# EAGLE library part SN75175 (library lichtenstein_onion)
QUADRUPLE DIFFERENTIAL LINE RECEIVERS Datasheet <http://www.ti.com/lit/ds/symlink/sn75175.pdf>
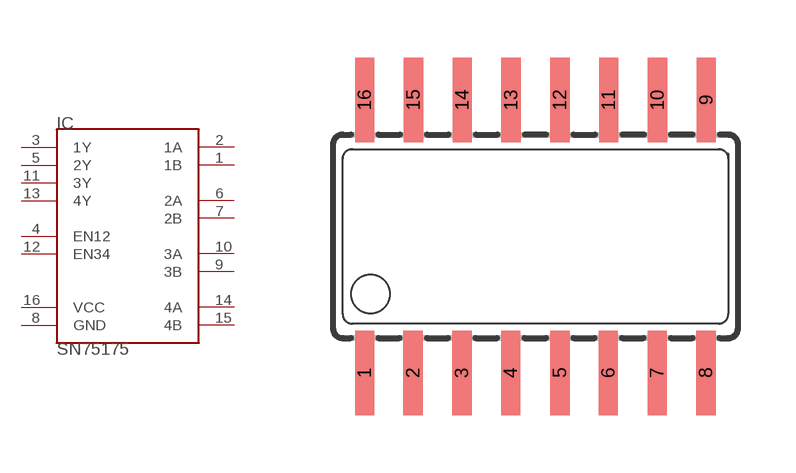
[diagram p21: symbol with the pads of SOP-16; footprint SOP-16]

Designator prefix IC

## SN75175SOP-16 (MOUSER: 595-SN75175DR)  [SOP-16]
1  1B
2  1A
3  1Y  out
4  EN12  in
5  2Y  out
6  2A
7  2B
8  GND  pwr
9  3B
10  3A
11  3Y  out
12  EN34  in
13  4Y  out
14  4A
15  4B
16  VCC  pwr

## Footprint SOP-16 (pad centres in mm)
Small Outline Package
smd 0.5 x 2.2: 1 -4.445,-3.55; 2 -3.185,-3.55; 3 -1.915,-3.55; 4 -0.645,-3.55; 5 0.635,-3.55; 6 1.895,-3.55; 7 3.165,-3.55; 8 4.435,-3.55; 9 4.445,3.55; 10 3.175,3.55; 11 1.905,3.55; 12 0.635,3.55; 13 -0.635,3.55; 14 -1.905,3.55; 15 -3.175,3.55; 16 -4.445,3.55